# EAGLE library part 90130-?06 (library con-molex)
CONNECTOR wire to board 2.54 mm (.1 inch) pitch header
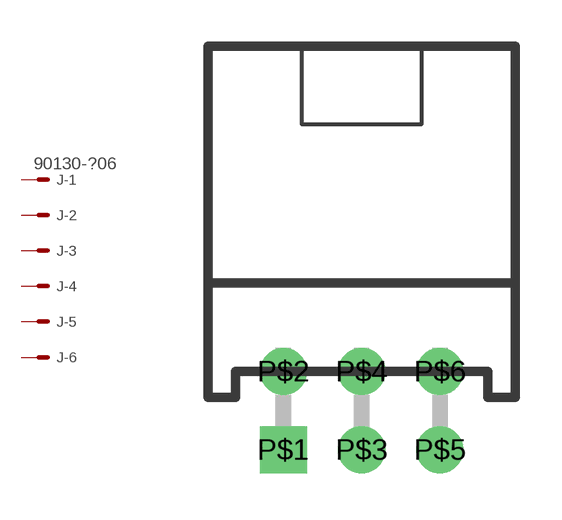
[diagram p1: symbol with the pads of 90130-3X06; footprint 90130-3X06]

Designator prefix J; gates -1=MV -2=M -3=M -4=M -5=M -6=M

## 90130-3106  [90130-3X06]
P$1  -1:S  pas
P$2  -2:S  pas
P$3  -3:S  pas
P$4  -4:S  pas
P$5  -5:S  pas
P$6  -6:S  pas

## Footprint 90130-3X06 (pad centres in mm)
drill 1.016 square: P$1 -2.54,-1.27
drill 1.016: P$2 -2.54,1.27; P$3 0,-1.27; P$4 0,1.27; P$5 2.54,-1.27; P$6 2.54,1.27